# EAGLE library part W25Q (library IC)
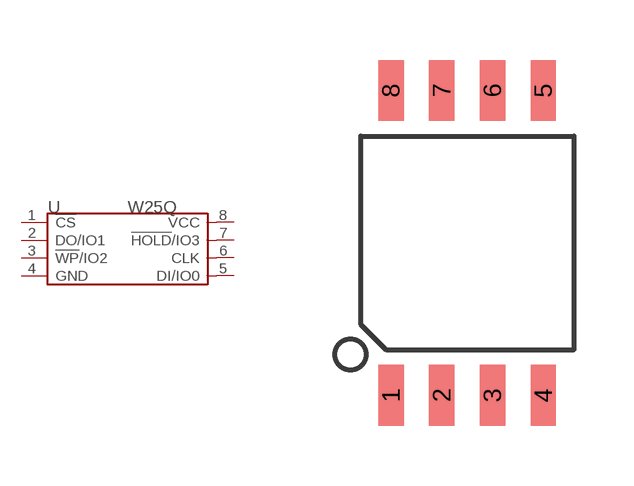
[diagram p153: symbol with the pads of SOIC8-9.1; footprint SOIC8-9.1]

Designator prefix U

## W25Q_SOIC8  [SOIC8-9.1]
1  !CS
2  DO/IO1
3  !WP!/IO2
4  GND
5  DI/IO0
6  CLK
7  !HOLD!/IO3
8  VCC

## Footprint SOIC8-9.1 (pad centres in mm)
smd 0.635 x 1.524: 1 -1.905,-3.81; 2 -0.635,-3.81; 3 0.635,-3.81; 4 1.905,-3.81; 5 1.905,3.81; 6 0.635,3.81; 7 -0.635,3.81; 8 -1.905,3.81